# Altium schematic symbol library BATERIA.Schlib: 1 symbol
Pins are listed as number, name and electrical type; pins without a type are passive.

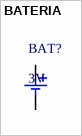
[diagram p0: symbol BATERIA]

## BATERIA
designator BAT?, comment 3V
BATERIA
pins: 1, 2